# EAGLE library part SI7005-* (library si70xx-10)
Digital I2C Humidity and Temperature Sensor Source: http://www.silabs.com/Support%20Documents/TechnicalDocs/Si7005.pdf
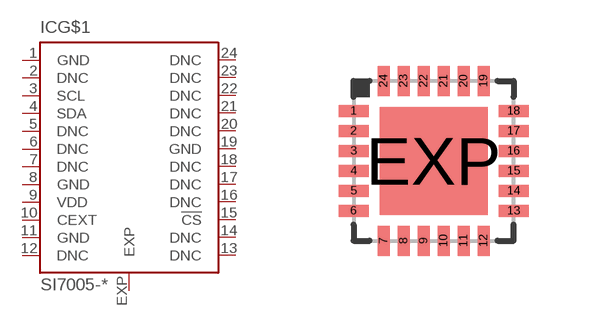
[diagram p0: symbol with the pads of QFN24-4X4; footprint QFN24-4X4]

Designator prefix IC; gates G$1=SI7005 G$2=EXPOSED

## SI7005-B-FM (MF: Silicon Labs; MPN: Si7005-B-FM; OC_FARNELL: unknown; OC_NEWARK: unknown), SI7005-B-GM (MF: Silicon Labs; MPN: Si7005-B-GM; OC_FARNELL: unknown; OC_NEWARK: unknown)  [QFN24-4X4]
1  G$1:GND  pwr
2  G$1:DNC  nc
3  G$1:SCL  in
4  G$1:SDA
5  G$1:DNC  nc
6  G$1:DNC  nc
7  G$1:DNC  nc
8  G$1:GND  pwr
9  G$1:VDD  pwr
10  G$1:CEXT  in
11  G$1:GND  pwr
12  G$1:DNC  nc
13  G$1:DNC  nc
14  G$1:DNC  nc
15  G$1:!CS  in
16  G$1:DNC  nc
17  G$1:DNC  nc
18  G$1:DNC  nc
19  G$1:GND  pwr
20  G$1:DNC  nc
21  G$1:DNC  nc
22  G$1:DNC  nc
23  G$1:DNC  nc
24  G$1:DNC  nc
EXP  G$2:EXP  pas

## Footprint QFN24-4X4 (pad centres in mm)
24-Lead Plastic Quad Flat No Lead Package - 4x4 mm Body [QFN] Source: http://www.silabs.com/Support%20Documents/TechnicalDocs/Si7005.pdf
smd 0.75 x 0.3: 1 -2,1.25; 2 -2,0.75; 3 -2,0.25; 4 -2,-0.25; 5 -2,-0.75; 6 -2,-1.25; 13 2,-1.25; 14 2,-0.75; 15 2,-0.25; 16 2,0.25; 17 2,0.75; 18 2,1.25
smd 0.3 x 0.75: 7 -1.25,-2; 8 -0.75,-2; 9 -0.25,-2; 10 0.25,-2; 11 0.75,-2; 12 1.25,-2; 19 1.25,2; 20 0.75,2; 21 0.25,2; 22 -0.25,2; 23 -0.75,2; 24 -1.25,2
smd 2.7 x 2.7: EXP 0,0